# EAGLE library part LSM6DS3TR (library Deegou_IC)
STMicroelectronics LSM6DS3TR 3-Axis Accelerometer & Gyroscope, 0 ??400 kHz, 1.7 ??3.6 V 14-Pin LGA%0%0 %0 Source: Datasheet <https://www.arrow.com/en/products/lsm6ds3tr/stmicroelectronics>
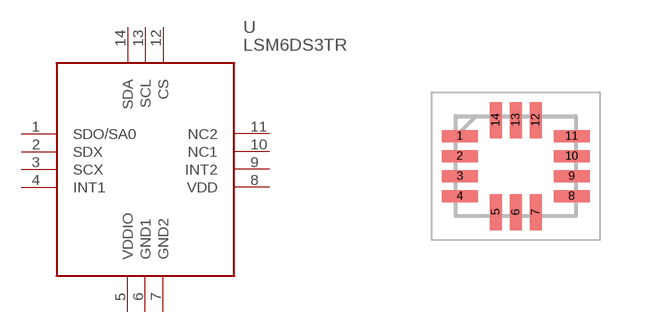
[diagram p104: symbol with the pads of QFN50P300X250X86-14N; footprint QFN50P300X250X86-14N]

Designator prefix U

## LSM6DS3TR (ARROW_PART_NUMBER: LSM6DS3TR; DESCRIPTION: STMicroelectronics LSM6DS3TR 3-Axis Accelerometer & Gyroscope, 0 ??400 kHz, 1.7 ??3.6 V 14-Pin LGA%0%0 %0; HEIGHT: 0.86mm; MANUFACTURER_NAME: STMicroelectronics; MANUFACTURER_PART_NUMBER: LSM6DS3TR)  [QFN50P300X250X86-14N]
1  SDO/SA0
2  SDX
3  SCX
4  INT1  in
5  VDDIO  pwr
6  GND1  pwr
7  GND2  pwr
8  VDD  pwr
9  INT2  in
10  NC1
11  NC2
12  CS  in
13  SCL
14  SDA

## Footprint QFN50P300X250X86-14N (pad centres in mm)
LGA-14
smd 0.9 x 0.3: 1 -1.4,0.75; 2 -1.4,0.25; 3 -1.4,-0.25; 4 -1.4,-0.75; 8 1.4,-0.75; 9 1.4,-0.25; 10 1.4,0.25; 11 1.4,0.75
smd 0.3 x 0.9: 5 -0.5,-1.15; 6 0,-1.15; 7 0.5,-1.15; 12 0.5,1.15; 13 0,1.15; 14 -0.5,1.15